# Altium schematic symbol library 3-JST-Connector.SchLib: 45 symbols
Pins are listed as number, name and electrical type; pins without a type are passive.

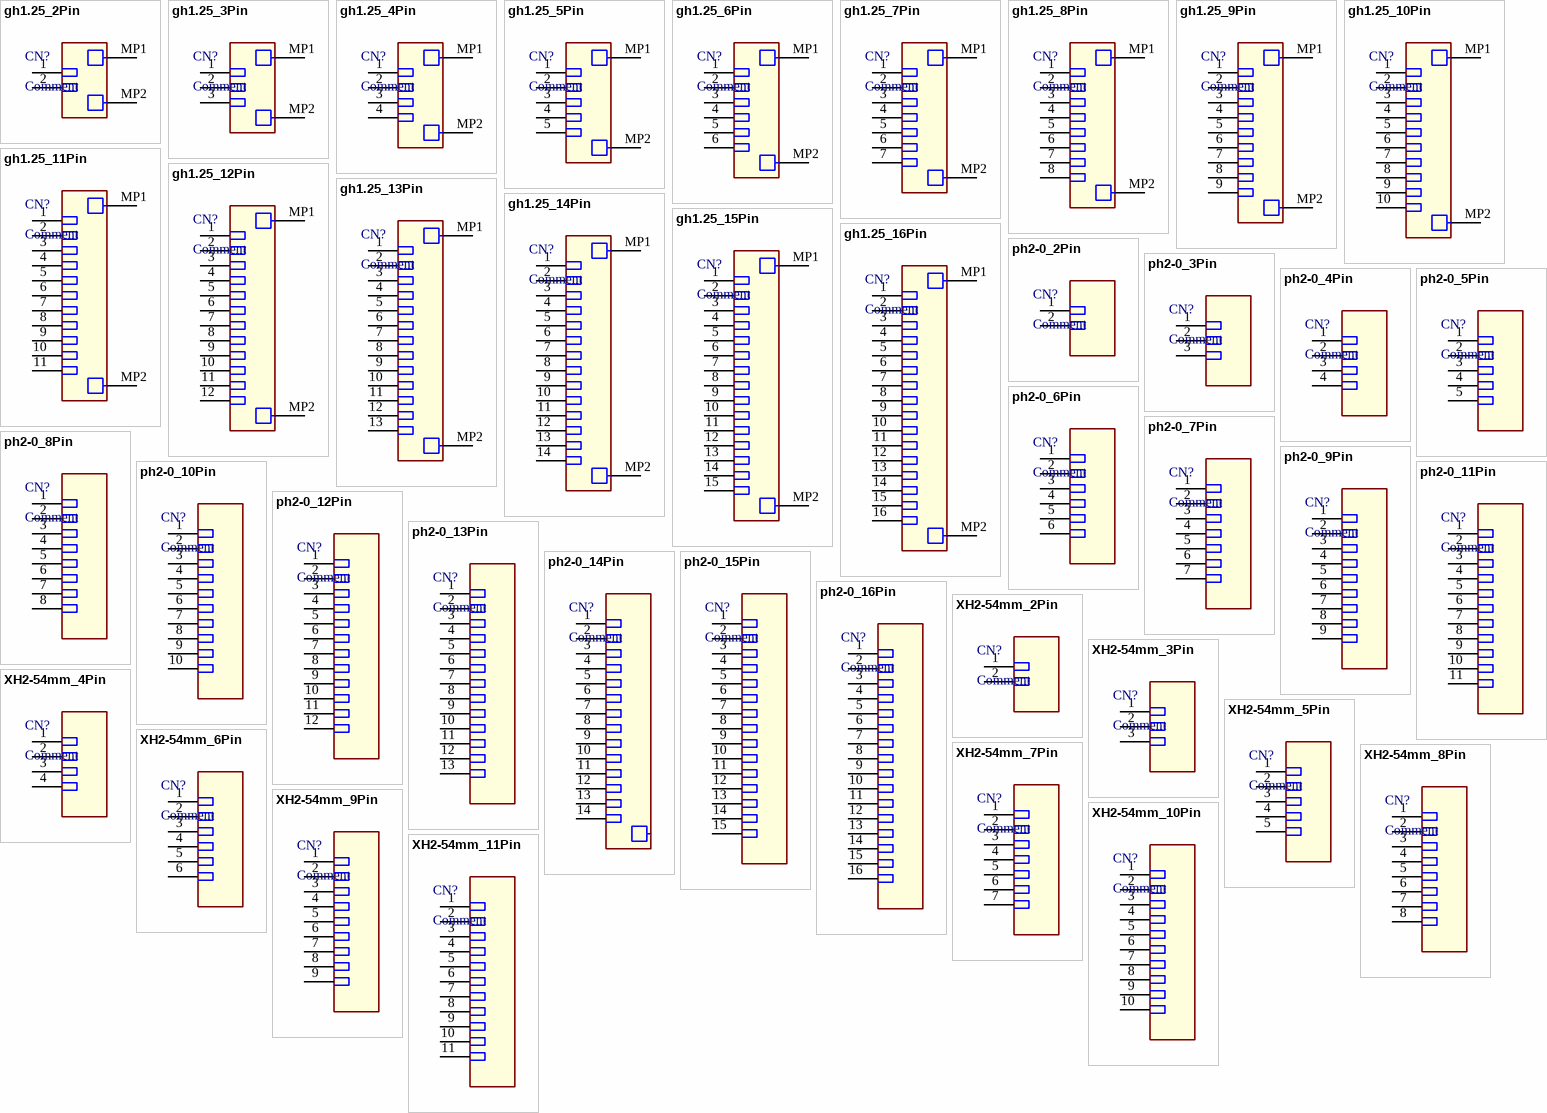
[diagram p0: symbols gh1.25_2Pin to XH2-54mm_11Pin]

## gh1.25_2Pin
designator CN?, comment Comment
pins: 1, 2, MP1, MP2

## gh1.25_3Pin
designator CN?, comment Comment
pins: 1, 2, 3, MP1, MP2

## gh1.25_4Pin
designator CN?, comment Comment
pins: 1, 2, 3, 4, MP1, MP2

## gh1.25_5Pin
designator CN?, comment Comment
pins: 1, 2, 3, 4, 5, MP1, MP2

## gh1.25_6Pin
designator CN?, comment Comment
pins: 1, 2, 3, 4, 5, 6, MP1, MP2

## gh1.25_7Pin
designator CN?, comment Comment
pins: 1, 2, 3, 4, 5, 6, 7, MP1, MP2

## gh1.25_8Pin
designator CN?, comment Comment
pins: 1, 2, 3, 4, 5, 6, 7, 8, MP1, MP2

## gh1.25_9Pin
designator CN?, comment Comment
pins: 1, 2, 3, 4, 5, 6, 7, 8, 9, MP1, MP2

## gh1.25_10Pin
designator CN?, comment Comment
pins: 1, 2, 3, 4, 5, 6, 7, 8, 9, 10, MP1, MP2

## gh1.25_11Pin
designator CN?, comment Comment
pins: 1, 2, 3, 4, 5, 6, 7, 8, 9, 10, 11, MP1, MP2

## gh1.25_12Pin
designator CN?, comment Comment
pins: 1, 2, 3, 4, 5, 6, 7, 8, 9, 10, 11, 12, MP1, MP2

## gh1.25_13Pin
designator CN?, comment Comment
pins: 1, 2, 3, 4, 5, 6, 7, 8, 9, 10, 11, 12, 13, MP1, MP2

## gh1.25_14Pin
designator CN?, comment Comment
pins: 1, 2, 3, 4, 5, 6, 7, 8, 9, 10, 11, 12, 13, 14, MP1, MP2

## gh1.25_15Pin
designator CN?, comment Comment
pins: 1, 2, 3, 4, 5, 6, 7, 8, 9, 10, 11, 12, 13, 14, 15, MP1, MP2

## gh1.25_16Pin
designator CN?, comment Comment
pins: 1, 2, 3, 4, 5, 6, 7, 8, 9, 10, 11, 12, 13, 14, 15, 16, MP1, MP2

## ph2-0_2Pin
designator CN?, comment Comment
pins: 1, 2

## ph2-0_3Pin
designator CN?, comment Comment
pins: 1, 2, 3

## ph2-0_4Pin
designator CN?, comment Comment
pins: 1, 2, 3, 4

## ph2-0_5Pin
designator CN?, comment Comment
pins: 1, 2, 3, 4, 5

## ph2-0_6Pin
designator CN?, comment Comment
pins: 1, 2, 3, 4, 5, 6

## ph2-0_7Pin
designator CN?, comment Comment
pins: 1, 2, 3, 4, 5, 6, 7

## ph2-0_8Pin
designator CN?, comment Comment
pins: 1, 2, 3, 4, 5, 6, 7, 8

## ph2-0_9Pin
designator CN?, comment Comment
pins: 1, 2, 3, 4, 5, 6, 7, 8, 9

## ph2-0_10Pin
designator CN?, comment Comment
pins: 1, 2, 3, 4, 5, 6, 7, 8, 9, 10

## ph2-0_11Pin
designator CN?, comment Comment
pins: 1, 2, 3, 4, 5, 6, 7, 8, 9, 10, 11

## ph2-0_12Pin
designator CN?, comment Comment
pins: 1, 2, 3, 4, 5, 6, 7, 8, 9, 10, 11, 12

## ph2-0_13Pin
designator CN?, comment Comment
pins: 1, 2, 3, 4, 5, 6, 7, 8, 9, 10, 11, 12, 13

## ph2-0_14Pin
designator CN?, comment Comment
pins: 1, 2, 3, 4, 5, 6, 7, 8, 9, 10, 11, 12, 13, 14

## ph2-0_15Pin
designator CN?, comment Comment
pins: 1, 2, 3, 4, 5, 6, 7, 8, 9, 10, 11, 12, 13, 14, 15

## ph2-0_16Pin
designator CN?, comment Comment
pins: 1, 2, 3, 4, 5, 6, 7, 8, 9, 10, 11, 12, 13, 14, 15, 16

## XH2-54mm_2Pin
designator CN?, comment Comment
pins: 1, 2

## XH2-54mm_3Pin
designator CN?, comment Comment
pins: 1, 2, 3

## XH2-54mm_4Pin
designator CN?, comment Comment
pins: 1, 2, 3, 4

## XH2-54mm_5Pin
designator CN?, comment Comment
pins: 1, 2, 3, 4, 5

## XH2-54mm_6Pin
designator CN?, comment Comment
pins: 1, 2, 3, 4, 5, 6

## XH2-54mm_7Pin
designator CN?, comment Comment
pins: 1, 2, 3, 4, 5, 6, 7

## XH2-54mm_8Pin
designator CN?, comment Comment
pins: 1, 2, 3, 4, 5, 6, 7, 8

## XH2-54mm_9Pin
designator CN?, comment Comment
pins: 1, 2, 3, 4, 5, 6, 7, 8, 9

## XH2-54mm_10Pin
designator CN?, comment Comment
pins: 1, 2, 3, 4, 5, 6, 7, 8, 9, 10

## XH2-54mm_11Pin
designator CN?, comment Comment
pins: 1, 2, 3, 4, 5, 6, 7, 8, 9, 10, 11

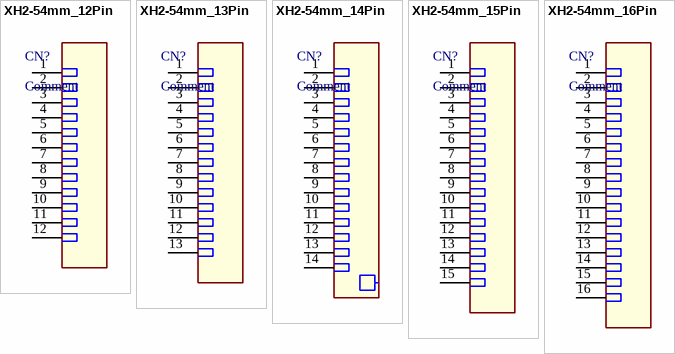
[diagram p1: symbols XH2-54mm_12Pin to XH2-54mm_16Pin]

## XH2-54mm_12Pin
designator CN?, comment Comment
pins: 1, 2, 3, 4, 5, 6, 7, 8, 9, 10, 11, 12

## XH2-54mm_13Pin
designator CN?, comment Comment
pins: 1, 2, 3, 4, 5, 6, 7, 8, 9, 10, 11, 12, 13

## XH2-54mm_14Pin
designator CN?, comment Comment
pins: 1, 2, 3, 4, 5, 6, 7, 8, 9, 10, 11, 12, 13, 14

## XH2-54mm_15Pin
designator CN?, comment Comment
pins: 1, 2, 3, 4, 5, 6, 7, 8, 9, 10, 11, 12, 13, 14, 15

## XH2-54mm_16Pin
designator CN?, comment Comment
pins: 1, 2, 3, 4, 5, 6, 7, 8, 9, 10, 11, 12, 13, 14, 15, 16